# Altium schematic symbol library My Library.SchLib: 664 symbols (part 5 of 5)
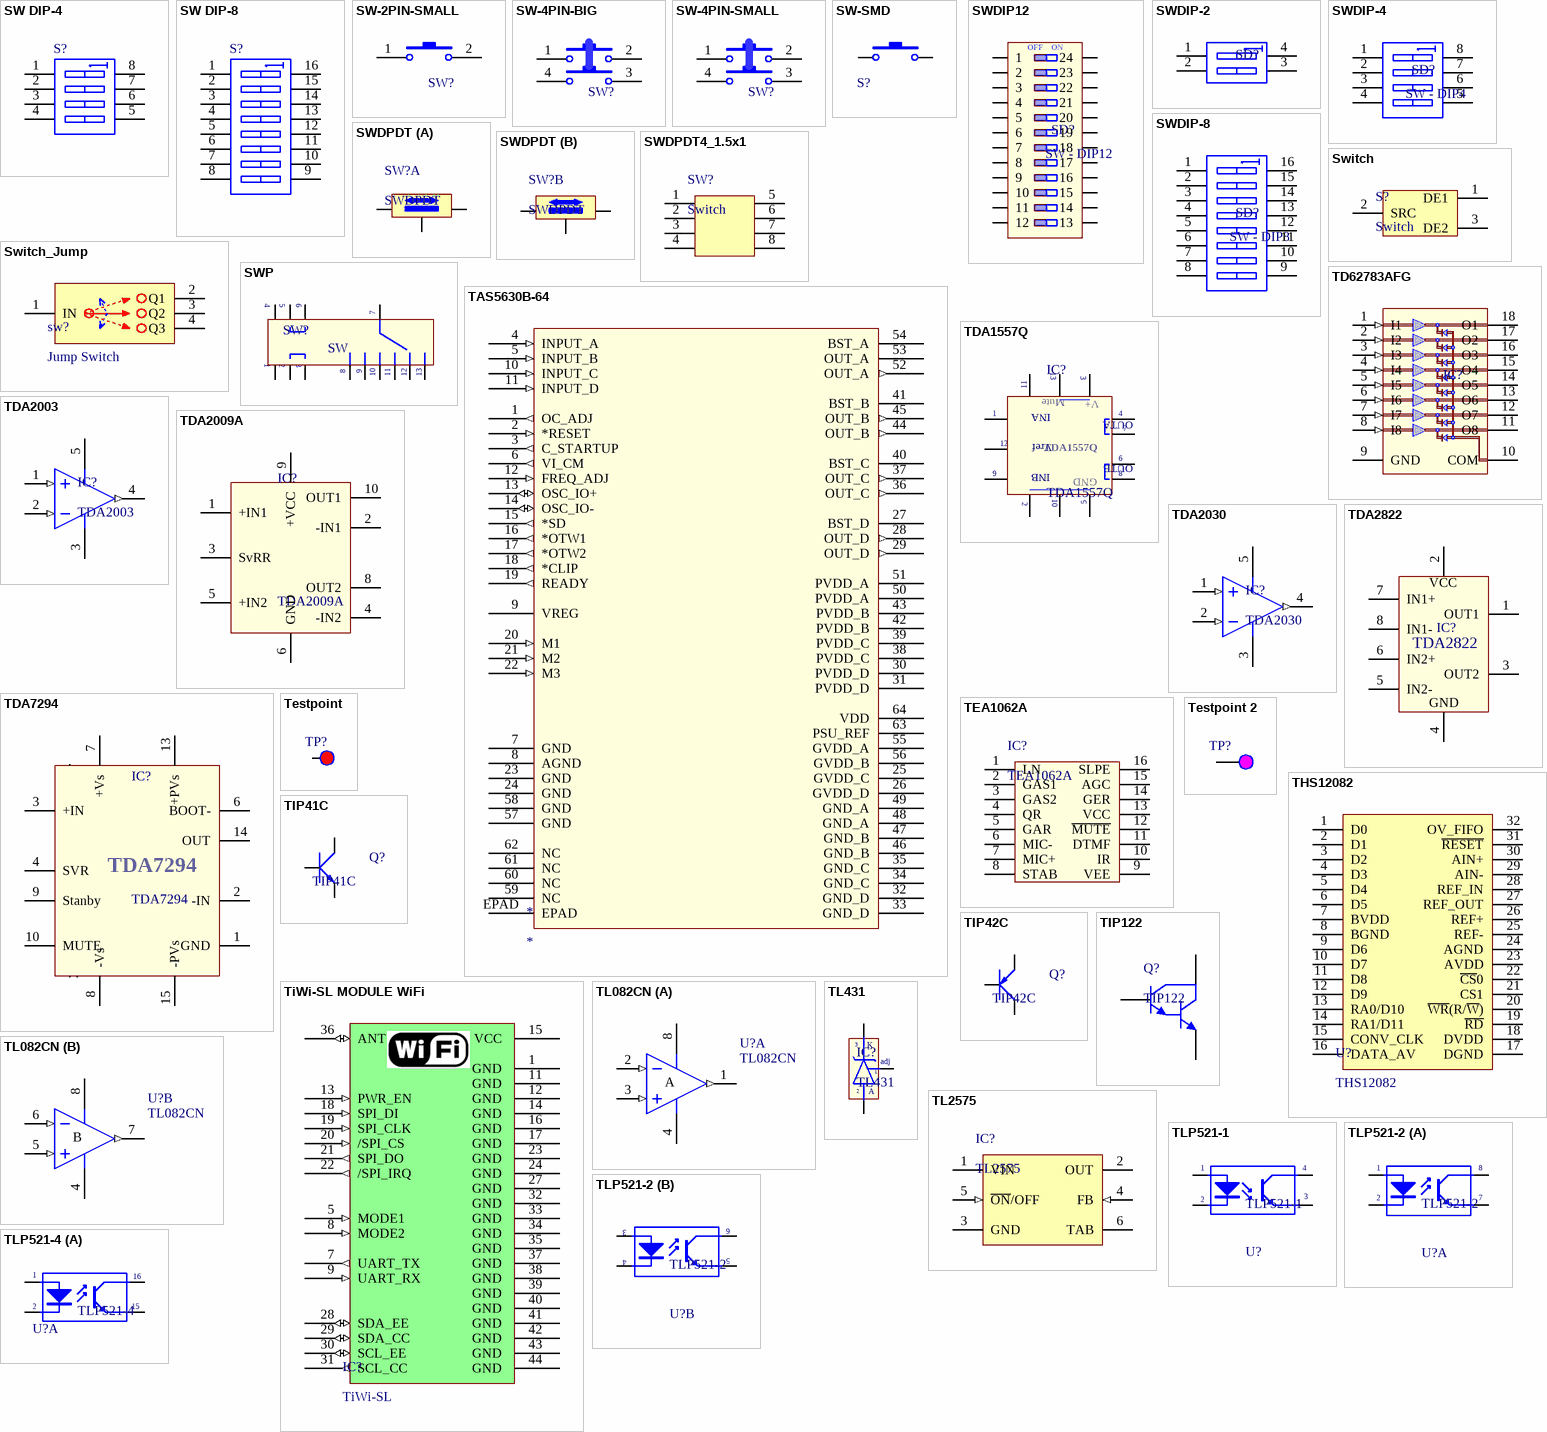
[diagram p26: symbols SW DIP-4 to TLP521-4]

## SWDIP-8
designator SD?, comment SW - DIP8
DIP Switch, 8 Position, SPST; Value: SW - DIP8
footprint DIP16/W0.3 KEY (16 PIN, W 300mil, Pin to pin 100mil)
simulation model dpsw8 (Spice Subcircuit)
pins: 1 A1, 2 A2, 3 A3, 4 A4, 5 A5, 6 A6, 7 A7, 8 A8, 9 B8, 10 B7, 11 B6, 12 B5, 13 B4, 14 B3, 15 B2, 16 B1

## SWDPDT
designator SW?
Switch SPDT; Creat by: VanDungEvn@Gmail.com
footprint SWDPDT_1.5x1 (Switch DPDT, Pin to Pin 150mil, Row to Row 100mil)
footprint SWDPDT_1.5x2 (Switch DPDT, Pin to Pin 150mil, Row to Row 200mil)
part A pins: 1, 2, 3
part B pins: 4, 5, 6

## SWDPDT4_1.5x1
designator SW?, comment Switch
Switch 1-3 x2
footprint SWDPDT4_1.5x1 (Switch 3 DPDT, Pin to Pin 150mil, Row to Row 100mil)
pins: 1, 2, 3, 4, 5, 6, 7, 8

## Switch
designator S?
footprint Switch
pins: 1 DE1, 2 SRC, 3 DE2, 4 hidden, 5 hidden

## Switch_Jump
designator sw?, comment Jump Switch
footprint SW-Jump
pins: 1 IN, 2 Q1, 3 Q2, 4 Q3

## SWP
designator SW?, comment SW
Switch Power; Value: SW Power
footprint SWP (SW Power)
pins: 1, 2, 3, 4, 5, 6, 7, 8, 9, 10, 11, 12, 13

## TAS5630B-64
designator *
pins: 1 OC_ADJ (out), 2 *RESET (in), 3 C_STARTUP (out), 4 INPUT_A (in), 5 INPUT_B (in), 6 VI_CM (out), 7 GND (power), 8 AGND (power), 9 VREG (power), 10 INPUT_C (in), 11 INPUT_D (in), 12 FREQ_ADJ (in), 13 OSC_IO+ (io), 14 OSC_IO- (io), 15 *SD (out), 16 *OTW1 (out), 17 *OTW2 (out), 18 *CLIP (out), 19 READY (out), 20 M1 (in), 21 M2 (in), 22 M3 (in), 23 GND (power), 24 GND (power), 25 GVDD_C (power), 26 GVDD_D (power), 27 BST_D (power), 28 OUT_D (out), 29 OUT_D (out), 30 PVDD_D (power), 31 PVDD_D (power), 32 GND_D (power), 33 GND_D (power), 34 GND_C (power), 35 GND_C (power), 36 OUT_C (out), 37 OUT_C (out), 38 PVDD_C (power), 39 PVDD_C (power), 40 BST_C (power), 41 BST_B (power), 42 PVDD_B (power), 43 PVDD_B (power), 44 OUT_B (out), 45 OUT_B (out), 46 GND_B (power), 47 GND_B (power), 48 GND_A (power), 49 GND_A (power), 50 PVDD_A (power), 51 PVDD_A (power), 52 OUT_A (out), 53 OUT_A (power), 54 BST_A (power), 55 GVDD_A (power), 56 GVDD_B (power), 57 GND (power), 58 GND (power), 59 NC, 60 NC, 61 NC, 62 NC, 63 PSU_REF (power), 64 VDD (power), EPAD

## TD62783AFG
designator IC?  (value not drawn)
High-Voltage, High-Current Darlington Array; Value: TD62783AFG
footprint DIP18/W0.3 (18 PIN, W 300mil, Pin to pin 100mil)
pins: 1 I1 (in), 2 I2 (in), 3 I3 (in), 4 I4 (in), 5 I5 (in), 6 I6 (in), 7 I7 (in), 8 I8 (in), 9 GND (power), 10 COM, 11 O8 (oc), 12 O7 (oc), 13 O6 (oc), 14 O5 (oc), 15 O4 (oc), 16 O3 (oc), 17 O2 (oc), 18 O1 (oc)

## TDA1557Q
designator IC?
2 x 22 W BTL stereo car radio power amplifier with speaker protection; Value: TDA1557Q
footprint DIP13/S1 (13 Pin so le hai hang cach nhau 200mil., Pin to pin 100mil)
pins: 1 IN1, 2 GND, 3 V+, 4 OUT1A, 5 GND, 6 OUT1B, 7 OUT2A, 8 OUT2B, 9 IN2, 10 GND, 11 Mute, 12 Vref, 13 V+
text: INA; OUTA; OUTB; INB

## TDA2003
designator IC?
10W CAR RADIO AUDIO AMPLIFIER; Value: TDA2003
footprint DIP5SL1
pins: 1 IN+ (in), 2 IN- (in), 3 V- (power), 4 OUT (out), 5 V+ (power)

## TDA2009A
designator IC?
2 x 10 W BTL stereo car radio power amplifier with speaker protection; Value: TDA1557Q
footprint DIP11/S1 (11 Pin so le hai hang cach nhau 200mil., Pin to pin 100mil)
pins: 1 +IN1, 2 -IN1, 3 SvRR, 4 -IN2, 5 +IN2, 6 GND, 8 OUT2, 9 +VCC, 10 OUT1

## TDA2030
designator IC?
14W Hi-Fi AUDIO AMPLIFIER; Value: TDA2030
footprint DIP5SL1
pins: 1 IN+ (in), 2 IN- (in), 3 V- (power), 4 OUT (out), 5 V+ (power)

## TDA2822
designator IC?  (value not drawn)
Dual Low Voltage Power Amplifire
footprint DIP8/W0.3 (8 PIN, W 300mil, Pin to pin 100mil)
pins: 1 OUT1, 2 VCC, 3 OUT2, 4 GND "VCC", 5 IN2- "VCC", 6 IN2+ "VCC", 7 IN1+ "VCC", 8 IN1- "VCC"

## TDA7294
designator IC?
100V - 100W DMOS AUDIO AMPLIFIER WITH MUTE/ST-BY; Value: TDA1557Q
footprint DIP15SL2 (TO, Thru-Hole, Vertical, Heatsink Mounted; 15 Bent Staggered Leads; Pitch 1.27 mm)
pins: 1 GND, 2 -IN, 3 +IN, 4 SVR, 5 NC, 6 BOOT-, 7 +Vs, 8 -Vs, 9 Stanby, 10 MUTE, 11 NC, 12 NC, 13 +PVs, 14 OUT, 15 -PVs

## TEA1062A
designator IC?
Low voltage transmission circuits with dialler interface; Creat by: VanDungEvn@Gmail.com
footprint DIP16/W0.3 (16 PIN, W 300mil, Pin to pin 100mil)
pins: 1 LN, 2 GAS1, 3 GAS2, 4 QR, 5 GAR, 6 MIC-, 7 MIC+, 8 STAB, 9 VEE, 10 IR, 11 DTMF, 12 ~{MUTE}, 13 VCC, 14 GER, 15 AGC, 16 SLPE

## Testpoint
designator TP?  (value not drawn)
footprint TP (TestPoint)
pins: 1

## Testpoint 2
designator TP?  (value not drawn)
footprint TP - 2 (TestPoint)
pins: 1

## THS12082
designator U?
footprint TSSOP40P640-32L (TSSOP, 32-Leads, Body 6.5x4.4mm, Pitch 0.4mm, IPC High Density)
pins: 1 D0, 2 D1, 3 D2, 4 D3, 5 D4, 6 D5, 7 BVDD, 8 BGND, 9 D6, 10 D7, 11 D8, 12 D9, 13 RA0/D10, 14 RA1/D11, 15 CONV_CLK, 16 DATA_AV, 17 DGND, 18 DVDD, 19 ~{RD}, 20 ~{WR}(R/~{W}), 21 CS1, 22 ~{CS}0, 23 AVDD, 24 AGND, 25 REF-, 26 REF+, 27 REF_OUT, 28 REF_IN, 29 AIN-, 30 AIN+, 31 ~{RESET}, 32 OV_FIFO

## TIP41C
designator Q?
NPN 2W, BCE; Value: TIP41C
footprint QTO-220 (TO-220 - 1-2-3)
pins: 1 B, 2 C, 3 E

## TIP42C
designator Q?
PNP 2W, BCE; Value: TIP42C
footprint QTO-220 (TO-220 - 1-2-3)
pins: 1 B, 2 C, 3 E

## TIP122
designator Q?
Darlington Silicon Power NPN Transistor, 8 Amp, 100 Volts and 65 Watts
footprint QTO-220 (TO-220 - 1-2-3)
pins: 1 B, 2 C, 3 E

## TiWi-SL MODULE WiFi
designator IC?, comment TiWi-SL
TiWi-SL MODULE WiFi
footprint TIWI_SL_MOD
pins: 1 GND , 2 NC  hidden, 3 NC  hidden, 4 NC  hidden, 5 MODE1  (in), 6 NC  hidden, 7 UART_TX  (out), 8 MODE2  (in), 9 UART_RX  (in), 10 NC  hidden, 11 GND , 12 GND , 13 PWR_EN (in), 14 GND , 15 VCC  (power), 16 GND , 17 GND , 18 SPI_DI  (in), 19 SPI_CLK (in), 20 /SPI_CS (in), 21 SPI_DO (out), 22 /SPI_IRQ (out), 23 GND , 24 GND , 25 NC  hidden, 26 NC  hidden, 27 GND , 28 SDA_EE (io), 29 SDA_CC (io), 30 SCL_EE (io), 31 SCL_CC (out), 32 GND , 33 GND , 34 GND , 35 GND , 36 ANT  (io), 37 GND , 38 GND , 39 GND , 40 GND , 41 GND , 42 GND , 43 GND , 44 GND 

## TL082CN
designator U?
General-Purpose J-FET Dual Operational Amplifier; Published: 24-Aug-2001; LatestRevisionDate: 06-Jun-2005; LatestRevisionNote: Stylized 3D Model Added.; DatasheetVersion: Jan-1999; PackageReference: DIP8; Publisher: Altium Limited; PackageDescription: DIP; 8 Leads; Row Spacing 7.62 mm; Pitch 2.54 mm; Code_JEDEC: MO-001-AN; ComponentLink1Description: Manufacturer Link; ComponentLink1URL: http://www.st.com/; ComponentLink2Description: Datasheet; ComponentLink2URL: http://www.st.com/stonline/products/literature/ds/2300/tl082.pdf
footprint DIP.100/8/W.300/L.400
pins on every part: 4 V- (power), 8 V+ (power)
part A pins: 1 OUT (out), 2 IN- (in), 3 IN+ (in)
part B pins: 5 IN+ (in), 6 IN- (in), 7 OUT (out)
part A text: A
part B text: B

## TL431
designator IC?
Programmable Shunt Regulator; Value: TL431
footprint qto-92 (TO-92)
pins: 1 adj, 2 A, 3 K

## TL2575
designator IC?
TLTL2575, TL2575HV 1-A Simple Step-Down Switching Voltage
footprint TS5B_N
footprint QTO-220-5 (TO, Thru-Hole, Vertical, Heatsink Mounted; 5 In-Line Leads; Pitch 1.70 mm)
footprint QTO-220-5-1 (TO, Thru-Hole, Vertical, Heatsink Mounted; 5 Bent Staggered Leads; Pitch 1.7mm)
footprint QTO-220-5-1N (TO, Thru-Hole, Horizontal, Heatsink Mounted; 5 Bent Staggered Leads; Pitch 1.7 mm)
footprint QTO-220-5-1H1 (TO, Thru-Hole, Vertical, Heatsink Mounted; 5 Bent Staggered Leads; Pitch 1.7mm)
footprint QTO-220-5-1H2 (TO, Thru-Hole, Vertical, Heatsink Mounted; 5 Bent Staggered Leads; Pitch 1.7mm)
footprint TO-263
pins: 1 VIN (power), 2 OUT (power), 3 GND (power), 4 FB (in), 5 ~{ON}/OFF (in), 6 TAB (power)

## TLP521-1
designator U?
Single Opto; Value: TLP5211
footprint DIP4/W0.3 (4 PIN, W 300mil, Pin to pin 100mil)
pins: 1 A "Anode", 2 K "Cathode", 3 E "Emitter", 4 C "Collector"

## TLP521-2
designator U?
Dual Opto; Value: TLP521-2
footprint DIP8/W0.3 (8 PIN, W 300mil)
part A pins: 1 A "Anode", 2 K "Cathode", 7 E "Emitter", 8 C "Collector"
part B pins: 3 A "Anode", 4 K "Cathode", 5 E "Emitter", 6 C "Collector"

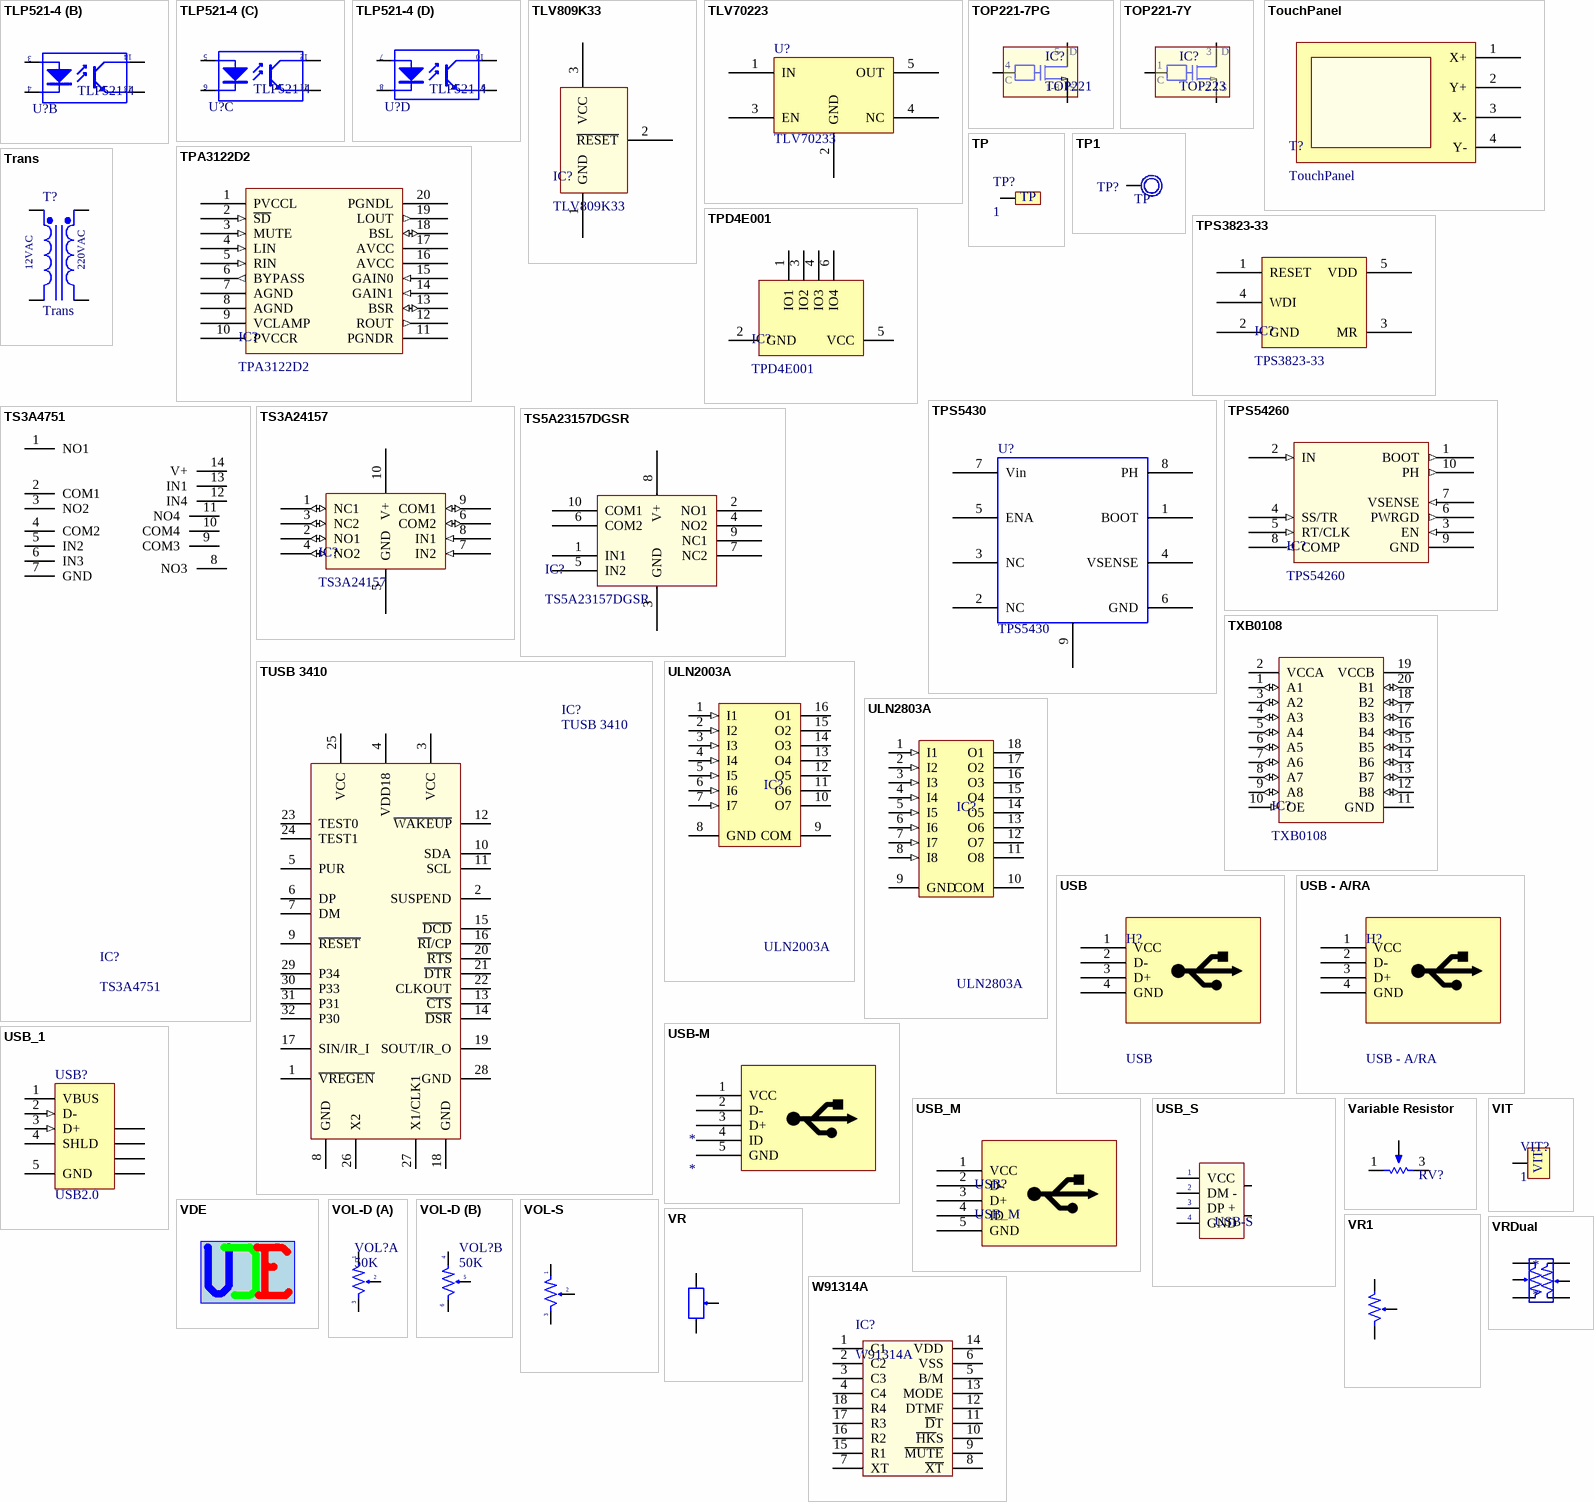
[diagram p21: symbols TLP521-4 to W91314A]

## TLP521-4
designator U?
Four Opto; Value: TLP521-4
footprint DIP16/W0.3 (16 PIN, W 300mil, Pin to pin 100mil)
part A pins: 1 A "Anode", 2 K "Cathode", 15 E "Emitter", 16 C "Collector"
part B pins: 3 A "Anode", 4 K "Cathode", 13 E "Emitter", 14 C "Collector"
part C pins: 5 A "Anode", 6 K "Cathode", 11 E "Emitter", 12 C "Collector"
part D pins: 7 A "Anode", 8 K "Cathode", 9 E "Emitter", 10 C "Collector"

## TLV809K33
designator IC?
Reset IC, Supply Voltage Supervisors
footprint SOT23 (SOT 23 _ 1-3-2)
pins: 1 GND (power), 2 ~{RESET}, 3 VCC (power)

## TLV70223
designator U?  Name: TLV70233
IC æn ¸p TLV70233, d¸n; Package: SOT23-5
footprint SOT23-5 (SOT23, 5-Leads, Body 3.0x3.0mm (max), Pitch 0.95mm, IPC Medium Density)
pins: 1 IN, 2 GND, 3 EN, 4 NC, 5 OUT

## TOP221-7PG
designator IC?, comment TOP221
Family Three-terminal Off-line PWM Switch
footprint DIP8/W0.3 (8 PIN, W 300mil, Pin to pin 100mil)
footprint SO-8 (8-Pin Small Outline Integrated Circuit 1.27 mm Pitch, IPC Medium Density)
pins: 1 S, 2 S, 3 S, 4 C, 5 D, 6 S, 7 S, 8 S
text: 1-8

## TOP221-7Y
designator IC?, comment TOP223
Family Three-terminal Off-line PWM Switch; Designed by: VanDungEvn
footprint QTO-220 (TO-220 - 1-2-3)
pins: 1 C, 2 C, 3 C
text: D; S

## TouchPanel
designator T?
4 wires touch panel; Creator: Nguyen Ba Bien; Date Created: 14-04-2010
footprint HDR1X4H (Connector; Header; 4 Position; Right Angle)
pins: 1 X+, 2 Y+, 3 X-, 4 Y-

## TP
designator TP?, comment 1
CONNECT 1
footprint TP (Footprint not found)
pins: TP1 0

## TP1
designator TP?, comment TP
Test Point; Value: Test Point
footprint TP1 (Test point)
footprint TP6 (Jac cap 6ly)
pins: 1

## TPA3122D2
designator IC?
15-W Stereo Class-D Audio Power Amplifier
pins: 1 PVCCL, 2 ~{SD} (in), 3 MUTE (in), 4 LIN (in), 5 RIN (in), 6 BYPASS (out), 7 AGND, 8 AGND, 9 VCLAMP, 10 PVCCR , 11 PGNDR, 12 ROUT (out), 13 BSR (io), 14 GAIN1 (in), 15 GAIN0 (in), 16 AVCC, 17 AVCC, 18 BSL (io), 19 LOUT (out), 20 PGNDL

## TPD4E001
designator IC?
footprint SOT23-6 (SOT23, 5-Leads, Body 3.0x3.0mm (max), Pitch 0.95mm, IPC Medium Density)
pins: 1 IO1, 2 GND, 3 IO2, 4 IO3, 5 VCC, 6 IO4

## TPS3823-33
designator IC?
IC reset
footprint SOT23-5 (SOT23, 5-Leads, Body 3.0x3.0mm (max), Pitch 0.95mm, IPC Medium Density)
pins: 1 RESET, 2 GND, 3 MR, 4 WDI, 5 VDD

## TPS5430
designator U?
Name: TPS5430
footprint TPS5430-1
footprint TPS5430-2
pins: 1 BOOT, 2 NC, 3 NC, 4 VSENSE, 5 ENA, 6 GND, 7 Vin, 8 PH, 9 PWR_PAD

## TPS54260
designator IC?
3.5V to 60V INPUT, 2.5A, STEP DOWN CONVERTER WITH ECO-MODE
pins: 1 BOOT (out), 2 IN (in), 3 EN (in), 4 SS/TR (in), 5 RT/CLK (in), 6 PWRGD (out), 7 VSENSE (in), 8 COMP (out), 9 GND (power), 10 PH (out)

## Trans
designator T?
Transformer (12V-6VA); Published: 8-Jun-2000; LatestRevisionDate: 17-Jul-2002; LatestRevisionNote: Re-released for DXP Platform.; PackageReference: TRF_4; Publisher: Altium Limited; PackageDescription: Transformer; 4 Leads
footprint Transformer 12V-6VA (Transformer; 4 Leads)
pins: 1 Pri+, 2 Pri-, 3 Sec+, 4 Sec-
text: 12VAC; 220VAC

## TS3A4751
designator IC?
Analog Switch ICs
pins: 1 NO1, 2 COM1, 3 NO2, 4 COM2, 5 IN2, 6 IN3, 7 GND, 8 NO3, 9 COM3, 10 COM4, 11 NO4, 12 IN4, 13 IN1, 14 V+

## TS3A24157
designator IC?
Analog Switch ICs
footprint TSSOP50P490X110-10N (TSSOP, 10-Leads, Body 3,1x3,1mm (max), Pitch 0,50mm, IPC Medium Density)
pins: 1 NC1 (io), 2 NO1 (io), 3 NC2 (io), 4 NO2 (io), 5 GND (power), 6 COM2 (io), 7 IN2 (in), 8 IN1 (in), 9 COM1 (io), 10 V+ (power)

## TS5A23157DGSR
designator IC?
Analog Switch ICs
footprint TSSOP50P490X110-10N (TSSOP, 10-Leads, Body 3,1x3,1mm (max), Pitch 0,50mm, IPC Medium Density)
pins: 1 IN1, 2 NO1, 3 GND, 4 NO2, 5 IN2, 6 COM2, 7 NC2, 8 V+, 9 NC1, 10 COM1

## TUSB 3410
designator IC?
USB to RS232 Converter; Value: TUSB 3410
footprint QFP7X7-G32/X.45N (QFP; 32 Leads; Body 7 x 7 mm; Pitch 0.8 mm)
pins: 1 ~{VREGEN}, 2 SUSPEND, 3 VCC, 4 VDD18, 5 PUR, 6 DP, 7 DM, 8 GND, 9 ~{RESET}, 10 SDA, 11 SCL, 12 ~{WAKEUP}, 13 ~{CTS}, 14 ~{DSR}, 15 ~{DCD}, 16 ~{RI}/CP, 17 SIN/IR_I, 18 GND, 19 SOUT/IR_O, 20 ~{RTS}, 21 ~{DTR}, 22 CLKOUT, 23 TEST0, 24 TEST1, 25 VCC, 26 X2, 27 X1/CLK1, 28 GND, 29 P34, 30 P33, 31 P31, 32 P30

## TXB0108
designator IC?
8-BIT BIDIRECTIONAL VOLTAGE-LEVEL TRANSLATOR
pins: 1 A1 (io), 2 VCCA (power), 3 A2 (io), 4 A3 (io), 5 A4 (io), 6 A5 (io), 7 A6 (io), 8 A7 (io), 9 A8 (io), 10 OE (in), 11 GND (power), 12 B8 (io), 13 B7 (io), 14 B6 (io), 15 B5 (io), 16 B4 (io), 17 B3 (io), 18 B2 (io), 19 VCCB (power), 20 B1 (io)

## ULN2003A
designator IC?
High-Voltage, High-Current Darlington Array; LatestRevisionNote: Stylized 3D Model Added.; Publisher: Altium Limited; Value: ULN2003A
footprint DIP16/W0.3 (16 PIN, W 300mil, Pin to pin 100mil)
footprint SO-G16/X.6 (Small Outline; 16 Leads; Body Width 5.3 mm; Pitch 1.27 mm)
pins: 1 I1 (in), 2 I2 (in), 3 I3 (in), 4 I4 (in), 5 I5 (in), 6 I6 (in), 7 I7 (in), 8 GND (power), 9 COM, 10 O7 (oc), 11 O6 (oc), 12 O5 (oc), 13 O4 (oc), 14 O3 (oc), 15 O2 (oc), 16 O1 (oc)

## ULN2803A
designator IC?
High-Voltage, High-Current Darlington Array; LatestRevisionNote: Stylized 3D Model Added.; Publisher: Altium Limited; Value: ULN2803A
footprint DIP18/W0.3 (18 PIN, W 300mil, Pin to pin 100mil)
pins: 1 I1 (in), 2 I2 (in), 3 I3 (in), 4 I4 (in), 5 I5 (in), 6 I6 (in), 7 I7 (in), 8 I8 (in), 9 GND (power), 10 COM, 11 O8 (oc), 12 O7 (oc), 13 O6 (oc), 14 O5 (oc), 15 O4 (oc), 16 O3 (oc), 17 O2 (oc), 18 O1 (oc)

## USB
designator H?
footprint USB-B-STRANGE (USB Type B - STRANGE - Slave Device)
pins: 1 VCC, 2 D-, 3 D+, 4 GND, 5 hidden, 6 hidden

## USB - A/RA
designator H?
footprint USB-A-RA (USB Type A)
pins: 1 VCC, 2 D-, 3 D+, 4 GND, 5 hidden, 6 hidden

## USB-M
designator *
footprint USB-B-Mini
pins: 1 VCC, 2 D-, 3 D+, 4 ID, 5 GND

## USB_1
designator USB?, comment USB2.0
USB 2.0, Right Angle, SMT, B Type, Receptacle, 5 Position, Black; ContactMaterial: Copper Alloy; ContactPlating: Gold (30); PCB_Layout: Complies with manufacturer's recommendation.; DrillSize: Corresponds to nominal value.; PanelGround: Without; Published: 15-Jul-2004; DatasheetDocument: 27-Jun-2003; PackageDocument: 27-Jun-2003; PackageReference: 440247; Publisher: Altium Limited; HousingMaterial: Thermoplastic; ComponentLink1Description: Manufacturer Link; ComponentLink1URL: http://www.tycoelectronics.com/; ComponentLink2Description: Packaging Specification; ComponentLink2URL: http://ecommas.tycoelectronics.com/commerce/DocumentDelivery/DDEController?Action=showdoc&DocId=Customer+Drawing%7F440247%7FD%7Fpdf%7FEnglish%7FC_440247_D.pdf
footprint USB mini (Footprint not found)
pins: 1 VBUS (power) "Power", 2 D- (in) "-DATA", 3 D+ (in) "+DATA", 4 SHLD "Ground", 5 GND (power) "Shield", 6 SHLD "Shield", 7 SHLD "Shield", 8 SHLD "Shield", 9 SHLD "Shield"

## USB_M
designator USB?
footprint USB_B_MINI
footprint USB_B_MINI_SMD
pins: 1 VCC, 2 D-, 3 D+, 4 ID, 5 GND

## USB_S
designator USB?, comment USB-S
USB connector; Value: USB
footprint USB-S2 (USB B connector, 4pin, For Print)
footprint USB-S1 (USB A connector, 4pin, For USB sing)
footprint USB-M (For USB SMD)
pins: 1 VCC, 2 DM -, 3 DP +, 4 GND, 5, 6

## Variable Resistor
designator RV?, comment RV20K  (value not drawn)
Variable Resistor; Sim Note: Enter the Resistance value and the set point into parameter fields.; Set Position: 0.5; Published: 8-Jun-2000; LatestRevisionDate: 17-Jul-2002; LatestRevisionNote: Re-released for DXP Platform.; PackageReference: VR5; Publisher: Altium Limited
footprint RVAR10K (Bien tro vi chinh)
pins: 1, 2, 3
1 alternate drawing of the same symbol

## VDE
designator VDE  (value not drawn)
VanDungEvn
footprint VDE (VDE - SM)

## VIT
designator VIT?, comment 1
Oc Vit
footprint VIT
pins: VIT1 1

## VOL-D
designator VOL?, comment 50K
Volume control Dual; Value: Volume Dual 50K
footprint VOL-D (Volume control Dual)
part A pins: 1, 2, 3
part B pins: 4, 5, 6

## VOL-S
designator VOL?, comment 50K
Var Resistor; Value: Volume 50k
footprint VOL-S (Volume control single)
footprint VOL_SMD
pins: 1, 2, 3

## VR
designator VR?, comment 10K
Var Resistor; Value: VR 10K
footprint VR1 (Variable Resistor)
footprint VR (Resistor Variable)
pins: 1, 2, 3

## VR1
designator VR?, comment 10K
Var Resistor; Value: VR 10K
footprint VR1 (Variable Resistor)
footprint VR (Resistor Variable)
pins: 1, 2, 3

## VRDual
designator *
footprint VOL-D (Volume control Dual)
pins: 1, 2, 3, 4, 5, 6

## W91314A
designator IC?
TONE/PULSE DIALER WITH  REDIAL FUNCTION; Creat by: VanDungEvn@Gmail.com
footprint DIP18/W0.3 (18 PIN, W 300mil, Pin to pin 100mil)
pins: 1 C1, 2 C2, 3 C3, 4 C4, 5 B/M, 6 VSS, 7 XT, 8 ~{XT}, 9 ~{MUTE}, 10 ~{HK}S, 11 ~{D}T, 12 DTMF, 13 MODE, 14 VDD, 15 R1, 16 R2, 17 R3, 18 R4

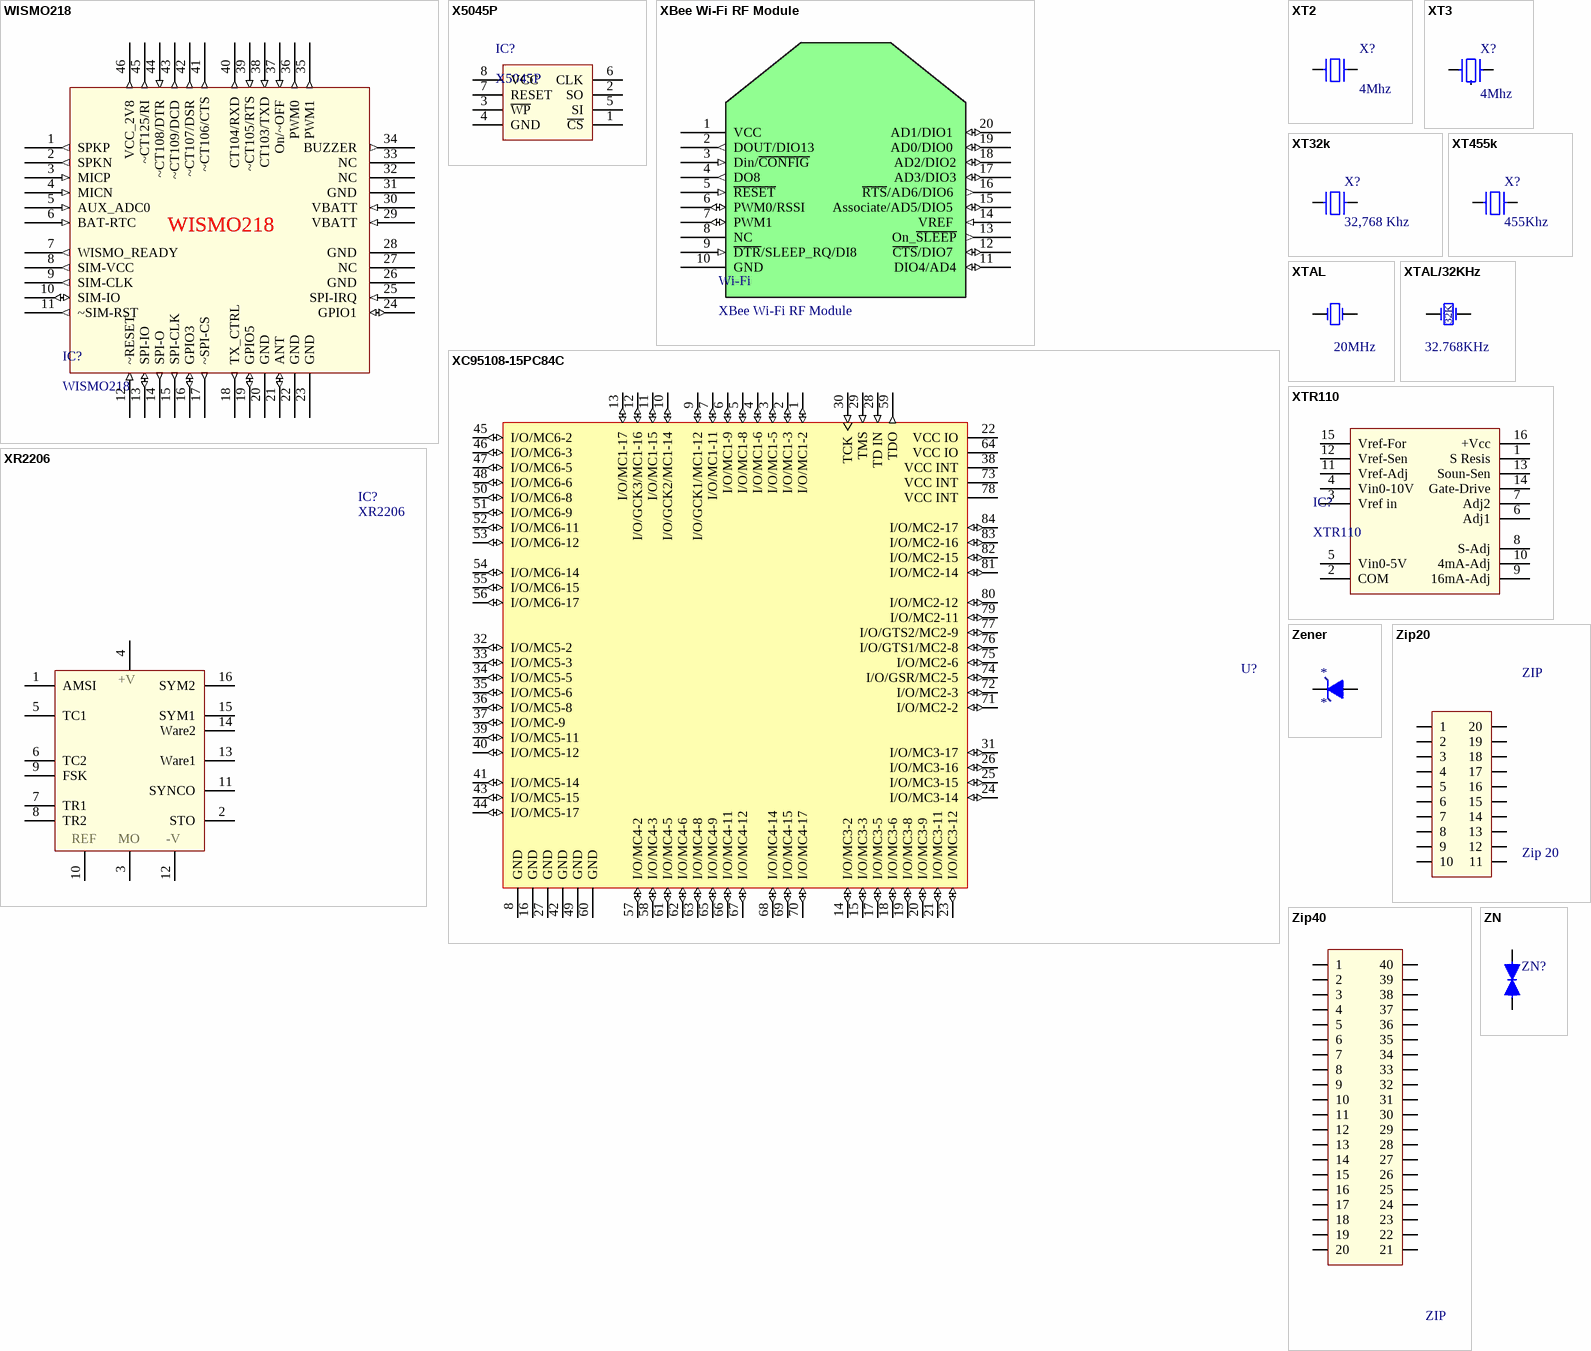
[diagram p22: symbols WISMO218 to ZN]

## WISMO218
designator IC?
WIreless Standard MOdem GSM GPRS
footprint Wismo218 (LCC, 46-Pins, Body 25,0x25,0mm (max), Wismo218)
pins: 1 SPKP  (out), 2 SPKN  (out), 3 MICP  (in), 4 MICN  (in), 5 AUX_ADC0  (in), 6 BAT-RTC  (in), 7 WISMO_READY  (out), 8 SIM-VCC  (out), 9 SIM-CLK  (out), 10 SIM-IO  (io), 11 ~SIM-RST  (out), 12 ~RESET  (in), 13 SPI-IO  (io), 14 SPI-O  (out), 15 SPI-CLK  (out), 16 GPIO3  (io), 17 ~SPI-CS  (out), 18 TX_CTRL  (out), 19 GPIO5  (io), 20 GND  (power), 21 ANT  (io), 22 GND  (power), 23 GND  (power), 24 GPIO1  (io), 25 SPI-IRQ  (in), 26 GND  (power), 27 NC , 28 GND  (power), 29 VBATT  (in), 30 VBATT  (in), 31 GND  (power), 32 NC , 33 NC , 34 BUZZER  (out), 35 PWM1  (out), 36 PWM0  (out), 37 On/~OFF  (in), 38 CT103/TXD (in), 39 ~CT105/RTS (in), 40 CT104/RXD (out), 41 ~CT106/CTS (out), 42 ~CT107/DSR  (out), 43 ~CT109/DCD  (out), 44 ~CT108/DTR  (in), 45 ~CT125/RI  (out), 46 VCC_2V8  (out)

## X5045P
designator IC?
4K SPI EEPROM
footprint DIP8/W0.3 (8 PIN, W 300mil, Pin to pin 100mil)
pins: 1 ~{CS}, 2 SO, 3 ~{WP}, 4 GND, 5 SI, 6 CLK, 7 RESET, 8 VCC

## XBee Wi-Fi RF Module
designator Wi-Fi
pins: 1 VCC  (power), 2 DOUT/DIO13  (out), 3 Din/~{CONFIG} (in), 4 DO8 (out), 5 ~{RESET} (in), 6 PWM0/RSSI (io), 7 PWM1 (io), 8 NC, 9 ~{DTR}/SLEEP_RQ/DI8  (in), 10 GND  (power), 11 DIO4/AD4 (io), 12 ~{CTS}/DIO7  (io), 13 On_~{SLEEP} (out), 14 VREF  (in), 15 Associate/AD5/DIO5  (io), 16 ~{RTS}/AD6/DIO6  (out), 17 AD3/DIO3 (io), 18 AD2/DIO2 (io), 19 AD0/DIO0  (io), 20 AD1/DIO1  (io)

## XC95108-15PC84C
designator U?  (value not drawn)
Programmable CPLD; Class I: Programmable Logic Device; Class II: XC9500; Revision: 17-Jul-2002: Re-released for DXP Platform.; Value: XC95108
footprint DIP80_2m (DIP80, P - P 200)
pins: 1 I/O/MC1-2 (io), 2 I/O/MC1-3 (io), 3 I/O/MC1-5 (io), 4 I/O/MC1-6 (io), 5 I/O/MC1-8 (io), 6 I/O/MC1-9 (io), 7 I/O/MC1-11 (io), 8 GND (power), 9 I/O/GCK1/MC1-12 (io), 10 I/O/GCK2/MC1-14 (io), 11 I/O/MC1-15 (io), 12 I/O/GCK3/MC1-16 (io), 13 I/O/MC1-17 (io), 14 I/O/MC3-2 (io), 15 I/O/MC3-3 (io), 16 GND (power), 17 I/O/MC3-5 (io), 18 I/O/MC3-6 (io), 19 I/O/MC3-8 (io), 20 I/O/MC3-9 (io), 21 I/O/MC3-11 (io), 22 VCC IO (power), 23 I/O/MC3-12 (io), 24 I/O/MC3-14 (io), 25 I/O/MC3-15 (io), 26 I/O/MC3-16 (io), 27 GND (power), 28 TD IN (in), 29 TMS (in), 30 TCK (in), 31 I/O/MC3-17 (io), 32 I/O/MC5-2 (io), 33 I/O/MC5-3 (io), 34 I/O/MC5-5 (io), 35 I/O/MC5-6 (io), 36 I/O/MC5-8 (io), 37 I/O/MC-9 (io), 38 VCC INT (power), 39 I/O/MC5-11 (io), 40 I/O/MC5-12 (io), 41 I/O/MC5-14 (io), 42 GND (power), 43 I/O/MC5-15 (io), 44 I/O/MC5-17 (io), 45 I/O/MC6-2 (io), 46 I/O/MC6-3 (io), 47 I/O/MC6-5 (io), 48 I/O/MC6-6 (io), 49 GND (power), 50 I/O/MC6-8 (io), 51 I/O/MC6-9 (io), 52 I/O/MC6-11 (io), 53 I/O/MC6-12 (io), 54 I/O/MC6-14 (io), 55 I/O/MC6-15 (io), 56 I/O/MC6-17 (io), 57 I/O/MC4-2 (io), 58 I/O/MC4-3 (io), 59 TDO (out), 60 GND (power), 61 I/O/MC4-5 (io), 62 I/O/MC4-6 (io), 63 I/O/MC4-8 (io), 64 VCC IO (power), 65 I/O/MC4-9 (io), 66 I/O/MC4-11 (io), 67 I/O/MC4-12 (io), 68 I/O/MC4-14 (io), 69 I/O/MC4-15 (io), 70 I/O/MC4-17 (io), 71 I/O/MC2-2 (io), 72 I/O/MC2-3 (io), 73 VCC INT (power), 74 I/O/GSR/MC2-5 (io), 75 I/O/MC2-6 (io), 76 I/O/GTS1/MC2-8 (io), 77 I/O/GTS2/MC2-9 (io), 78 VCC INT (power), 79 I/O/MC2-11 (io), 80 I/O/MC2-12 (io), 81 I/O/MC2-14 (io), 82 I/O/MC2-15 (io), 83 I/O/MC2-16 (io), 84 I/O/MC2-17 (io)

## XR2206
designator IC?
OSC Sine - Square - Triangle; Value: DIP 16; Value: XR2206
footprint DIP16/W0.3 (16 PIN, W 300mil)
pins: 1 AMSI, 2 STO, 3 MO, 4 +V, 5 TC1, 6 TC2, 7 TR1, 8 TR2, 9 FSK, 10 REF, 11 SYNCO, 12 -V, 13 Ware1, 14 Ware2, 15 SYM1, 16 SYM2

## XT2
designator X?, comment 4Mhz
Crystal For all Crystal 2pin.; Value: 4Mhz
footprint XT2 (Footpin for Crystal 2 pin)
footprint XT2N (Crystal 2pin, high 200 mil)
pins: 1, 2

## XT3
designator X?, comment 4Mhz
Crystal For all Crystal 2pin.; Value: 4Mhz
footprint XT3 (Crystal 3pin, High 200mil, Cremic)
pins: 1, 2, 3

## XT32k
designator X?, comment 32,768 Khz
Crystal 32,768kHz for timer real; Value: 32,768khz
footprint XT32k (Crystal 32k, 2 pin, real timer for DS1307)
pins: 1, 2

## XT455k
designator X?, comment 455Khz
Crystal 455kHz Infrared; Value: 32,768khz
footprint XT455k (Thach anh 455khz (Infrared))
footprint XT455KN (Thach anh 455khz)
pins: 1, 2

## XTAL
designator Y?, comment 20MHz
Crystal Oscillator; Published: 8-Jun-2000; LatestRevisionDate: 17-Jul-2002; LatestRevisionNote: Re-released for DXP Platform.; PackageReference: R38; Publisher: Altium Limited
footprint XTAL
pins: 1 OSC1, 2 OSC2

## XTAL/32KHz
designator Y?, comment 32.768KHz
Crystal Oscillator; Published: 8-Jun-2000; LatestRevisionDate: 17-Jul-2002; LatestRevisionNote: Re-released for DXP Platform.; PackageReference: R38; Publisher: Altium Limited
footprint XTAL32K (Connector; Header; 2 Position)
pins: 0 hidden to GND, 1 OSC1, 2 OSC2
text: 32K

## XTR110
designator IC?
PRECISION VOLTAGE-TO-CURREN  CONVERTER/TRANSMITTER; Designed by: VanDungEvn; Value: XTR110
footprint DIP16/W0.3 (16 PIN, W 300mil, Pin to pin 100mil)
pins: 1 S Resis, 2 COM, 3 Vref in, 4 Vin0-10V, 5 Vin0-5V, 6 Adj1, 7 Adj2, 8 S-Adj, 9 16mA-Adj, 10 4mA-Adj, 11 Vref-Adj, 12 Vref-Sen, 13 Soun-Sen, 14 Gate-Drive, 15 Vref-For, 16 +Vcc

## Zener
designator *
footprint D1A (Diode 1A, W 100mil, L 350mil)
pins: 1 A, 2 K

## Zip20
designator ZIP, comment Zip 20
De 20 pin; Value: Gat 20 pin
footprint ZIP20 (DIP 20, W 600mil/ L 1600mil)
footprint DIP20/W0.3 (DIP 20, 20 PIN, W 300mil, Pin to pin 100mil)
pins: 1, 2, 3, 4, 5, 6, 7, 8, 9, 10, 11, 12, 13, 14, 15, 16, 17, 18, 19, 20

## Zip40
designator ZIP, comment Zip 40  (value not drawn)
De 40 pin; Value: Gat 40 pin
footprint ZIP40 (40 PIN, W 900 mil , L 2600 mil , Push Pro FOR Chip)
footprint DIP40/W0.6 (40 PIN, W 600mil, Pin to pin 100mil)
footprint DIP40/W0.3 (40 PIN, W 300mil, Pin to pin 100mil)
pins: 1, 2, 3, 4, 5, 6, 7, 8, 9, 10, 11, 12, 13, 14, 15, 16, 17, 18, 19, 20, 21, 22, 23, 24, 25, 26, 27, 28, 29, 30, 31, 32, 33, 34, 35, 36, 37, 38, 39, 40

## ZN
designator ZN?, comment Z  (value not drawn)
Zenner Protect AC in; Value: Zenner Protect AC input
footprint CN4 (Cap np W 0.4)
pins: 1, 2